# EAGLE library part HCF4051BE (library HCF4051BE)
Single 8-channel analog multiplexer/demultiplexer Source: Datasheet <https://www.st.com/resource/en/datasheet/hcf4051.pdf>
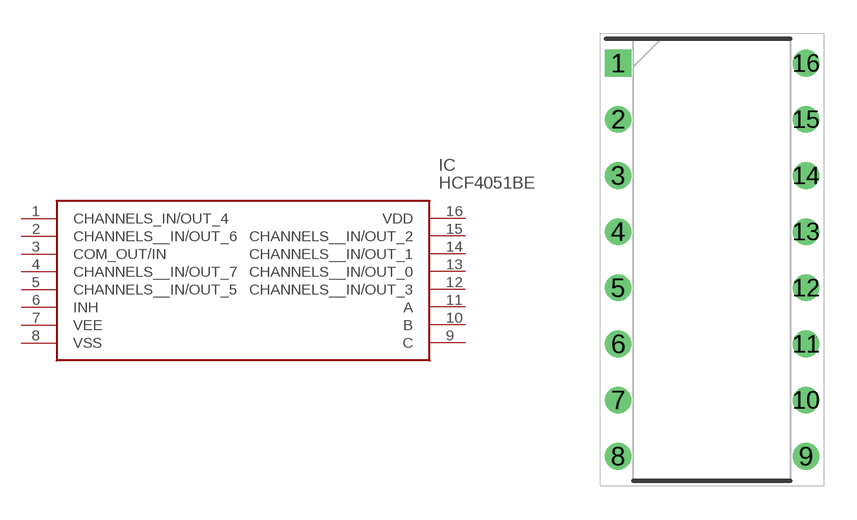
[diagram p0: symbol with the pads of DIP850W50P254L2000H510Q16N; footprint DIP850W50P254L2000H510Q16N]

Designator prefix IC

## HCF4051BE (Description: Single 8-channel analog multiplexer/demultiplexer; Height: 5.1mm; Manufacturer_Name: STMicroelectronics; Manufacturer_Part_Number: HCF4051BE)  [DIP850W50P254L2000H510Q16N]
1  CHANNELS_IN/OUT_4
2  CHANNELS__IN/OUT_6
3  COM_OUT/IN
4  CHANNELS__IN/OUT_7
5  CHANNELS__IN/OUT_5
6  INH
7  VEE
8  VSS
9  C
10  B
11  A
12  CHANNELS__IN/OUT_3
13  CHANNELS__IN/OUT_0
14  CHANNELS__IN/OUT_1
15  CHANNELS__IN/OUT_2
16  VDD

## Footprint DIP850W50P254L2000H510Q16N (pad centres in mm)
PDIP-16-ren1
drill 0.7 pad 1.1 square: 1 -4.25,8.89
drill 0.7 pad 1.1: 2 -4.25,6.35; 3 -4.25,3.81; 4 -4.25,1.27; 5 -4.25,-1.27; 6 -4.25,-3.81; 7 -4.25,-6.35; 8 -4.25,-8.89; 9 4.25,-8.89; 10 4.25,-6.35; 11 4.25,-3.81; 12 4.25,-1.27; 13 4.25,1.27; 14 4.25,3.81; 15 4.25,6.35; 16 4.25,8.89